# EAGLE library part MC14022BCPG (library On Semiconductor)
Octal Counter
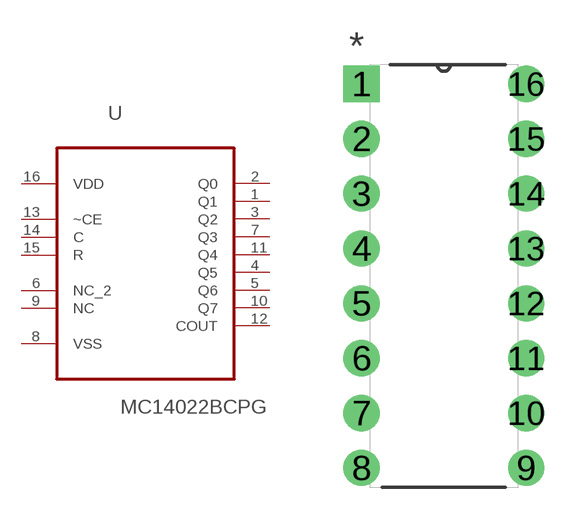
[diagram p212: symbol with the pads of DIP254P762X444-16; footprint DIP254P762X444-16]

Designator prefix U

## MC14022BCPG (MPN: MC14022BCPG; OC_FARNELL: 1607666; OC_NEWARK: 45J1032; PACKAGE: PDIP-16; SUPPLIER: On semiconductors)  [DIP254P762X444-16]
1  Q1  out
2  Q0  out
3  Q2  out
4  Q5  out
5  Q6  out
6  NC_2  out
7  Q3  out
8  VSS  pwr
9  NC  nc
10  Q7  out
11  Q4  out
12  COUT  out
13  ~CE  in
14  C  pas
15  R  in
16  VDD  pwr

## Footprint DIP254P762X444-16 (pad centres in mm)
drill 1.118 square: 1 -7.62,17.78
drill 1.118: 2 -7.62,15.24; 3 -7.62,12.7; 4 -7.62,10.16; 5 -7.62,7.62; 6 -7.62,5.08; 7 -7.62,2.54; 8 -7.62,0; 9 0,0; 10 0,2.54; 11 0,5.08; 12 0,7.62; 13 0,10.16; 14 0,12.7; 15 0,15.24; 16 0,17.78